# Altium integrated library FPGA Generic.IntLib: 1651 symbols (part 8 of 20)
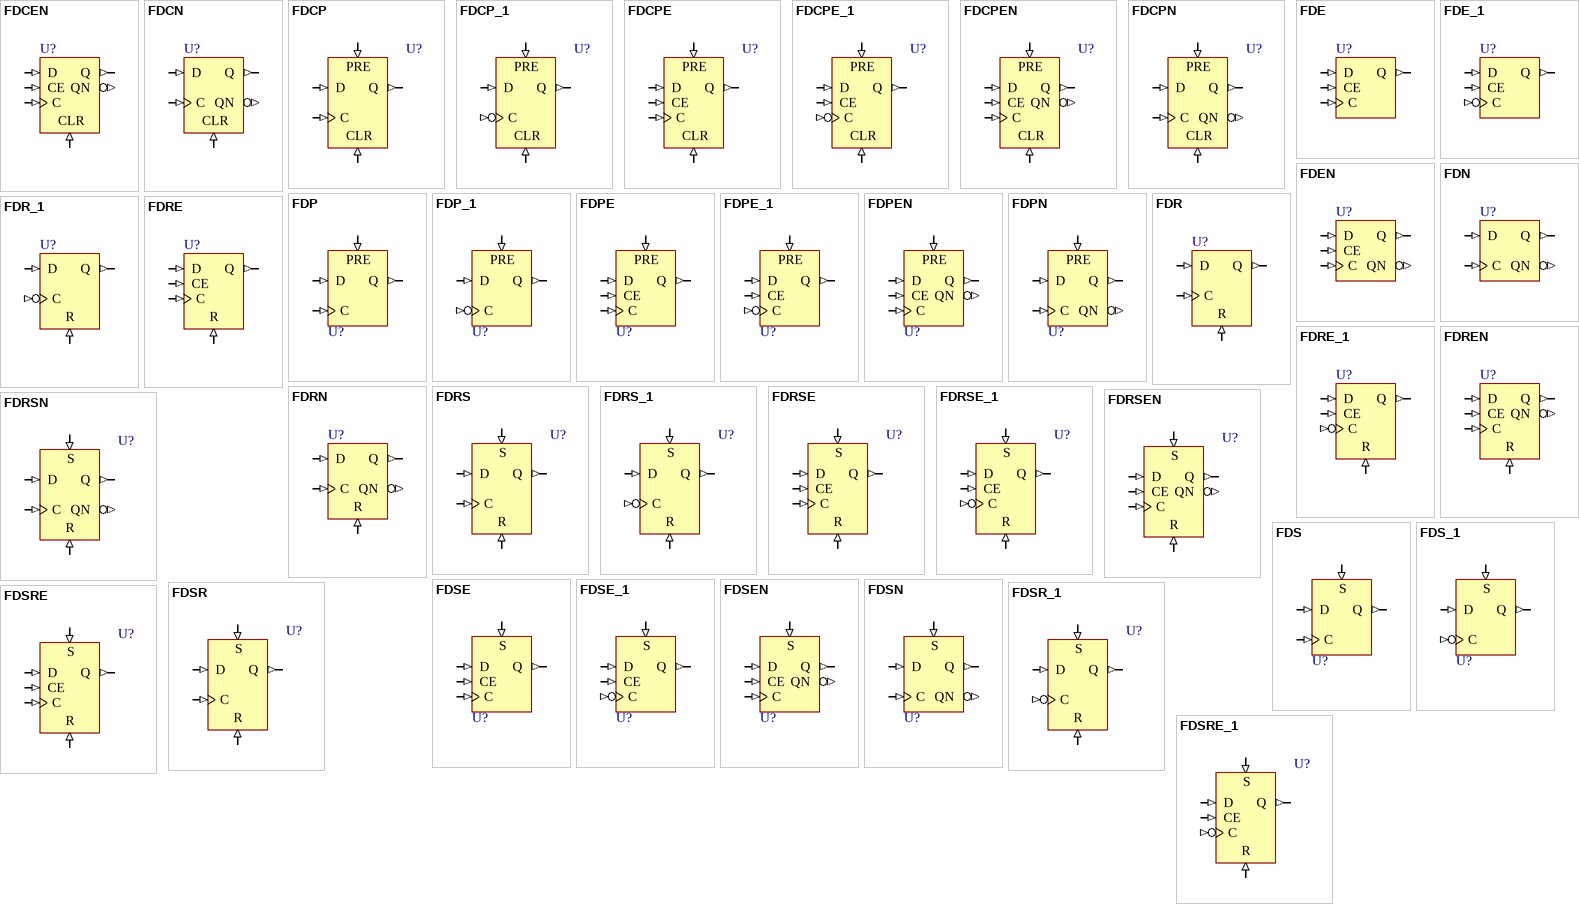
[diagram p50: symbols FDCEN to FDSRE_1]

## FDS_1
designator U?
D-Type Negative Edge Flip-Flop with Synchronous Set; XilinxEquivalent: FDS_1; SubClass: FD; ClockTrigger: Falling; ArchiveName: GENERIC; VHDLIB_SIM: GENERIC_LIB; Published: 29-Jan-2004; Publisher: Altium Limited; LastRevisionNo: 1.00.00; HelpURL: CR0118 FPGA Generic Library Guide.pdf#page=214; ComponentLink1URL: CR0133 FPGA Flip Flop Resource Usage.pdf#page=185; ComponentLink1Description: Core &Resource Usage; FunctionalClass: Flip-Flop; Set: Synchronous
pins: C (in), D (in), Q (out), S (in)

## FDSE
designator U?
D-Type Flip-Flop with Clock Enable and Synchronous Set; XilinxEquivalent: FDSE; SubClass: FD; ClockTrigger: Rising; Enable: High; ArchiveName: GENERIC; VHDLIB_SIM: GENERIC_LIB; Published: 29-Jan-2004; Publisher: Altium Limited; LastRevisionNo: 1.00.00; HelpURL: CR0118 FPGA Generic Library Guide.pdf#page=215; ComponentLink1URL: CR0133 FPGA Flip Flop Resource Usage.pdf#page=186; ComponentLink1Description: Core &Resource Usage; FunctionalClass: Flip-Flop; Set: Synchronous
pins: C (in), CE (in), D (in), Q (out), S (in)

## FDSE_1
designator U?
D-Type Negative Edge Flip-Flop with Clock Enable and Synchronous Set; XilinxEquivalent: FDSE_1; SubClass: FD; ClockTrigger: Falling; Enable: High; ArchiveName: GENERIC; VHDLIB_SIM: GENERIC_LIB; Published: 29-Jan-2004; Publisher: Altium Limited; LastRevisionNo: 1.00.00; HelpURL: CR0118 FPGA Generic Library Guide.pdf#page=217; ComponentLink1URL: CR0133 FPGA Flip Flop Resource Usage.pdf#page=187; ComponentLink1Description: Core &Resource Usage; FunctionalClass: Flip-Flop; Set: Synchronous
pins: C (in), CE (in), D (in), Q (out), S (in)

## FDSEN
designator U?
D-Type Flip-Flop with Clock Enable Synchronous Set and Inverted and Non-Inverted Outputs; SubClass: FD; ClockTrigger: Rising; Enable: High; ArchiveName: GENERIC; VHDLIB_SIM: GENERIC_LIB; Published: 29-Jan-2004; Publisher: Altium Limited; LastRevisionNo: 1.00.00; HelpURL: CR0118 FPGA Generic Library Guide.pdf#page=218; ComponentLink1URL: CR0133 FPGA Flip Flop Resource Usage.pdf#page=188; ComponentLink1Description: Core &Resource Usage; FunctionalClass: Flip-Flop; Set: Synchronous
pins: C (in), CE (in), D (in), Q (out), QN (out), S (in)

## FDSN
designator U?
D-Type Flip-Flop with Synchronous Set and Inverted and Non-Inverted Outputs; SubClass: FD; ClockTrigger: Rising; ArchiveName: GENERIC; VHDLIB_SIM: GENERIC_LIB; Published: 29-Jan-2004; Publisher: Altium Limited; LastRevisionNo: 1.00.00; HelpURL: CR0118 FPGA Generic Library Guide.pdf#page=219; ComponentLink1URL: CR0133 FPGA Flip Flop Resource Usage.pdf#page=189; ComponentLink1Description: Core &Resource Usage; FunctionalClass: Flip-Flop; Set: Synchronous
pins: C (in), D (in), Q (out), QN (out), S (in)

## FDSR
designator U?
D-Type Flip-Flop with Synchronous Set and Reset; XilinxEquivalent: FDSR; SubClass: FD; ClockTrigger: Rising; ArchiveName: GENERIC; VHDLIB_SIM: GENERIC_LIB; Published: 29-Jan-2004; Publisher: Altium Limited; LastRevisionNo: 1.00.00; HelpURL: CR0118 FPGA Generic Library Guide.pdf#page=220; ComponentLink1URL: CR0133 FPGA Flip Flop Resource Usage.pdf#page=190; ComponentLink1Description: Core &Resource Usage; FunctionalClass: Flip-Flop; Reset: Synchronous; Set: Synchronous
pins: C (in), D (in), Q (out), R (in), S (in)

## FDSR_1
designator U?
D-Type Negative Edge Flip-Flop with Synchronous Set and Reset; XilinxEquivalent: FDSR_1; SubClass: FD; ClockTrigger: Falling; ArchiveName: GENERIC; VHDLIB_SIM: GENERIC_LIB; Published: 29-Jan-2004; Publisher: Altium Limited; LastRevisionNo: 1.00.00; HelpURL: CR0118 FPGA Generic Library Guide.pdf#page=222; ComponentLink1URL: CR0133 FPGA Flip Flop Resource Usage.pdf#page=191; ComponentLink1Description: Core &Resource Usage; FunctionalClass: Flip-Flop; Reset: Synchronous; Set: Synchronous
pins: C (in), D (in), Q (out), R (in), S (in)

## FDSRE
designator U?
D-Type Flip-Flop with Synchronous Set and Reset and Clock Enable; XilinxEquivalent: FDSRE; SubClass: FD; ClockTrigger: Rising; Enable: High; ArchiveName: GENERIC; VHDLIB_SIM: GENERIC_LIB; Published: 29-Jan-2004; Publisher: Altium Limited; LastRevisionNo: 1.00.00; HelpURL: CR0118 FPGA Generic Library Guide.pdf#page=223; ComponentLink1URL: CR0133 FPGA Flip Flop Resource Usage.pdf#page=192; ComponentLink1Description: Core &Resource Usage; FunctionalClass: Flip-Flop; Reset: Synchronous; Set: Synchronous
pins: C (in), CE (in), D (in), Q (out), R (in), S (in)

## FDSRE_1
designator U?
D-Type Negative Edge Flip-Flop with Synchronous Set and Reset and Clock Enable; XilinxEquivalent: FDSRE_1; SubClass: FD; ClockTrigger: Falling; Enable: High; ArchiveName: GENERIC; VHDLIB_SIM: GENERIC_LIB; Published: 29-Jan-2004; Publisher: Altium Limited; LastRevisionNo: 1.00.00; HelpURL: CR0118 FPGA Generic Library Guide.pdf#page=225; ComponentLink1URL: CR0133 FPGA Flip Flop Resource Usage.pdf#page=193; ComponentLink1Description: Core &Resource Usage; FunctionalClass: Flip-Flop; Reset: Synchronous; Set: Synchronous
pins: C (in), CE (in), D (in), Q (out), R (in), S (in)

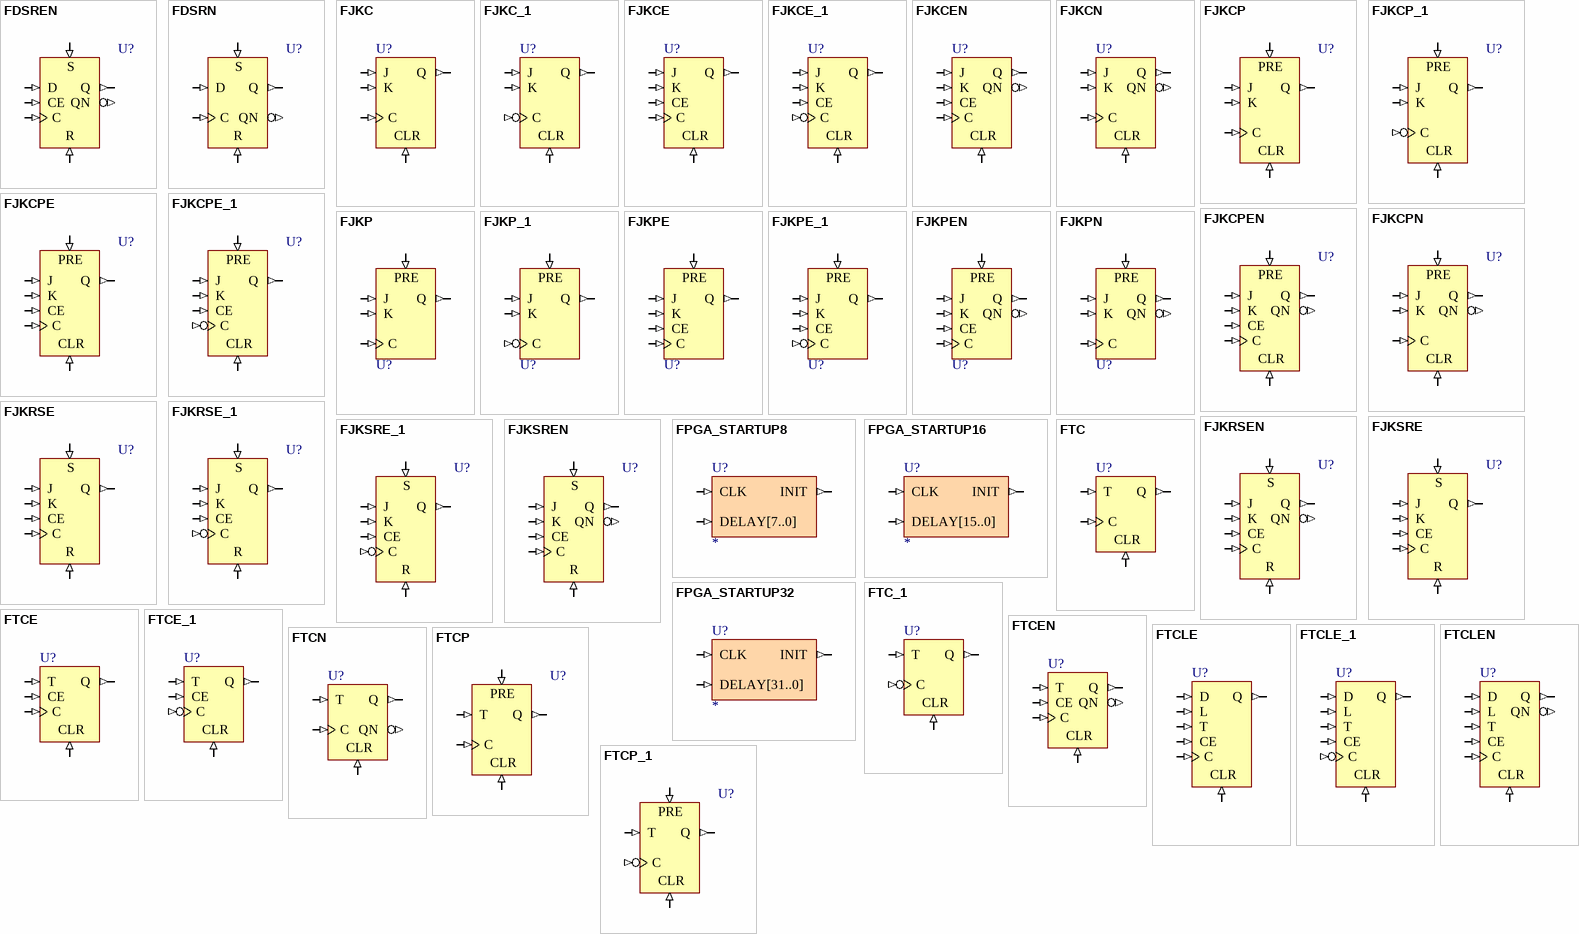
[diagram p15: symbols FDSREN to FTCP_1]

## FDSREN
designator U?
D-Type Flip-Flop with Synchronous Set, Reset, Clock Enable and Inverted and Non-Inverted Outputs; SubClass: FD; ClockTrigger: Rising; Enable: High; ArchiveName: GENERIC; VHDLIB_SIM: GENERIC_LIB; Published: 29-Jan-2004; Publisher: Altium Limited; LastRevisionNo: 1.00.00; HelpURL: CR0118 FPGA Generic Library Guide.pdf#page=226; ComponentLink1URL: CR0133 FPGA Flip Flop Resource Usage.pdf#page=194; ComponentLink1Description: Core &Resource Usage; FunctionalClass: Flip-Flop; Reset: Synchronous; Set: Synchronous
pins: C (in), CE (in), D (in), Q (out), QN (out), R (in), S (in)

## FDSRN
designator U?
D-Type Flip-Flop with Synchronous Set, Reset and Inverted and Non-Inverted Outputs; SubClass: FD; ClockTrigger: Rising; ArchiveName: GENERIC; VHDLIB_SIM: GENERIC_LIB; Published: 29-Jan-2004; Publisher: Altium Limited; LastRevisionNo: 1.00.00; HelpURL: CR0118 FPGA Generic Library Guide.pdf#page=227; ComponentLink1URL: CR0133 FPGA Flip Flop Resource Usage.pdf#page=195; ComponentLink1Description: Core &Resource Usage; FunctionalClass: Flip-Flop; Reset: Synchronous; Set: Synchronous
pins: C (in), D (in), Q (out), QN (out), R (in), S (in)

## FJKC
designator U?
J-K Flip-Flop with Asynchronous Clear; XilinxEquivalent: FJKC; SubClass: JK; ClockTrigger: Rising; ArchiveName: GENERIC; VHDLIB_SIM: GENERIC_LIB; Published: 29-Jan-2004; Publisher: Altium Limited; LastRevisionNo: 1.00.00; HelpURL: CR0118 FPGA Generic Library Guide.pdf#page=228; ComponentLink1URL: CR0133 FPGA Flip Flop Resource Usage.pdf#page=196; ComponentLink1Description: Core &Resource Usage; FunctionalClass: Flip-Flop; Reset: Asynchronous
pins: C (in), CLR (in), J (in), K (in), Q (out)

## FJKC_1
designator U?
J-K Negative Edge Flip-Flop with Asynchronous Clear; SubClass: JK; ClockTrigger: Falling; ArchiveName: GENERIC; VHDLIB_SIM: GENERIC_LIB; Published: 29-Jan-2004; Publisher: Altium Limited; LastRevisionNo: 1.00.00; HelpURL: CR0118 FPGA Generic Library Guide.pdf#page=229; ComponentLink1URL: CR0133 FPGA Flip Flop Resource Usage.pdf#page=197; ComponentLink1Description: Core &Resource Usage; FunctionalClass: Flip-Flop; Reset: Asynchronous
pins: C (in), CLR (in), J (in), K (in), Q (out)

## FJKCE
designator U?
J-K Flip-Flop with Clock Enable and Asynchronous Clear; XilinxEquivalent: FJKCE; SubClass: JK; ClockTrigger: Rising; Enable: High; ArchiveName: GENERIC; VHDLIB_SIM: GENERIC_LIB; Published: 29-Jan-2004; Publisher: Altium Limited; LastRevisionNo: 1.00.00; HelpURL: CR0118 FPGA Generic Library Guide.pdf#page=230; ComponentLink1URL: CR0133 FPGA Flip Flop Resource Usage.pdf#page=198; ComponentLink1Description: Core &Resource Usage; FunctionalClass: Flip-Flop; Reset: Asynchronous
pins: C (in), CE (in), CLR (in), J (in), K (in), Q (out)

## FJKCE_1
designator U?
J-K Negative Edge Flip-Flop with Clock Enable and Asynchronous Clear; SubClass: JK; ClockTrigger: Falling; Enable: High; ArchiveName: GENERIC; VHDLIB_SIM: GENERIC_LIB; Published: 29-Jan-2004; Publisher: Altium Limited; LastRevisionNo: 1.00.00; HelpURL: CR0118 FPGA Generic Library Guide.pdf#page=231; ComponentLink1URL: CR0133 FPGA Flip Flop Resource Usage.pdf#page=199; ComponentLink1Description: Core &Resource Usage; FunctionalClass: Flip-Flop; Reset: Asynchronous
pins: C (in), CE (in), CLR (in), J (in), K (in), Q (out)

## FJKCEN
designator U?
J-K Flip-Flop with Clock Enable, Asynchronous Clear and Inverted and Non-Inverted Outputs; SubClass: JK; ClockTrigger: Rising; Enable: High; ArchiveName: GENERIC; VHDLIB_SIM: GENERIC_LIB; Published: 29-Jan-2004; Publisher: Altium Limited; LastRevisionNo: 1.00.00; HelpURL: CR0118 FPGA Generic Library Guide.pdf#page=232; ComponentLink1URL: CR0133 FPGA Flip Flop Resource Usage.pdf#page=200; ComponentLink1Description: Core &Resource Usage; FunctionalClass: Flip-Flop; Reset: Asynchronous
pins: C (in), CE (in), CLR (in), J (in), K (in), Q (out), QN (out)

## FJKCN
designator U?
J-K Flip-Flop with Asynchronous Clear and Inverted and Non-Inverted Outputs; SubClass: JK; ClockTrigger: Rising; ArchiveName: GENERIC; VHDLIB_SIM: GENERIC_LIB; Published: 29-Jan-2004; Publisher: Altium Limited; LastRevisionNo: 1.00.00; HelpURL: CR0118 FPGA Generic Library Guide.pdf#page=233; ComponentLink1URL: CR0133 FPGA Flip Flop Resource Usage.pdf#page=201; ComponentLink1Description: Core &Resource Usage; FunctionalClass: Flip-Flop; Reset: Asynchronous
pins: C (in), CLR (in), J (in), K (in), Q (out), QN (out)

## FJKCP
designator U?
J-K Flip-Flop with Asynchronous Clear and Preset; XilinxEquivalent: FJKCP; SubClass: JK; ClockTrigger: Rising; ArchiveName: GENERIC; VHDLIB_SIM: GENERIC_LIB; Published: 29-Jan-2004; Publisher: Altium Limited; LastRevisionNo: 1.00.00; HelpURL: CR0118 FPGA Generic Library Guide.pdf#page=234; ComponentLink1URL: CR0133 FPGA Flip Flop Resource Usage.pdf#page=202; ComponentLink1Description: Core &Resource Usage; FunctionalClass: Flip-Flop; Reset: Asynchronous; Set: Asynchronous
pins: C (in), CLR (in), J (in), K (in), PRE (in), Q (out)

## FJKCP_1
designator U?
J-K Negative Edge Flip-Flop with Asynchronous Clear and Preset; SubClass: JK; ClockTrigger: Falling; ArchiveName: GENERIC; VHDLIB_SIM: GENERIC_LIB; Published: 29-Jan-2004; Publisher: Altium Limited; LastRevisionNo: 1.00.00; HelpURL: CR0118 FPGA Generic Library Guide.pdf#page=235; ComponentLink1URL: CR0133 FPGA Flip Flop Resource Usage.pdf#page=203; ComponentLink1Description: Core &Resource Usage; FunctionalClass: Flip-Flop; Reset: Asynchronous; Set: Asynchronous
pins: C (in), CLR (in), J (in), K (in), PRE (in), Q (out)

## FJKCPE
designator U?
J-K Flip-Flop with Asynchronous Clear and Preset and Clock Enable; XilinxEquivalent: FJKCPE; SubClass: JK; ClockTrigger: Rising; Enable: High; ArchiveName: GENERIC; VHDLIB_SIM: GENERIC_LIB; Published: 29-Jan-2004; Publisher: Altium Limited; LastRevisionNo: 1.00.00; HelpURL: CR0118 FPGA Generic Library Guide.pdf#page=236; ComponentLink1URL: CR0133 FPGA Flip Flop Resource Usage.pdf#page=204; ComponentLink1Description: Core &Resource Usage; FunctionalClass: Flip-Flop; Reset: Asynchronous; Set: Asynchronous
pins: C (in), CE (in), CLR (in), J (in), K (in), PRE (in), Q (out)

## FJKCPE_1
designator U?
J-K Negative Edge Flip-Flop with Asynchronous Clear and Preset and Clock Enable; SubClass: JK; ClockTrigger: Falling; Enable: High; ArchiveName: GENERIC; VHDLIB_SIM: GENERIC_LIB; Published: 29-Jan-2004; Publisher: Altium Limited; LastRevisionNo: 1.00.00; HelpURL: CR0118 FPGA Generic Library Guide.pdf#page=237; ComponentLink1URL: CR0133 FPGA Flip Flop Resource Usage.pdf#page=205; ComponentLink1Description: Core &Resource Usage; FunctionalClass: Flip-Flop; Reset: Asynchronous; Set: Asynchronous
pins: C (in), CE (in), CLR (in), J (in), K (in), PRE (in), Q (out)

## FJKCPEN
designator U?
J-K Flip-Flop with Asynchronous Clear, Preset, Clock Enable and Inverted and Non-Inverted Outputs; SubClass: JK; ClockTrigger: Rising; Enable: High; ArchiveName: GENERIC; VHDLIB_SIM: GENERIC_LIB; Published: 29-Jan-2004; Publisher: Altium Limited; LastRevisionNo: 1.00.00; HelpURL: CR0118 FPGA Generic Library Guide.pdf#page=238; ComponentLink1URL: CR0133 FPGA Flip Flop Resource Usage.pdf#page=206; ComponentLink1Description: Core &Resource Usage; FunctionalClass: Flip-Flop; Reset: Asynchronous; Set: Asynchronous
pins: C (in), CE (in), CLR (in), J (in), K (in), PRE (in), Q (out), QN (out)

## FJKCPN
designator U?
J-K Flip-Flop with Asynchronous Clear, Preset and Inverted and Non-Inverted Outputs; SubClass: JK; ClockTrigger: Rising; ArchiveName: GENERIC; VHDLIB_SIM: GENERIC_LIB; Published: 29-Jan-2004; Publisher: Altium Limited; LastRevisionNo: 1.00.00; HelpURL: CR0118 FPGA Generic Library Guide.pdf#page=239; ComponentLink1URL: CR0133 FPGA Flip Flop Resource Usage.pdf#page=207; ComponentLink1Description: Core &Resource Usage; FunctionalClass: Flip-Flop; Reset: Asynchronous; Set: Asynchronous
pins: C (in), CLR (in), J (in), K (in), PRE (in), Q (out), QN (out)

## FJKP
designator U?
J-K Flip-Flop with Asynchronous Preset; XilinxEquivalent: FJKP; SubClass: JK; ClockTrigger: Rising; ArchiveName: GENERIC; VHDLIB_SIM: GENERIC_LIB; Published: 29-Jan-2004; Publisher: Altium Limited; LastRevisionNo: 1.00.00; HelpURL: CR0118 FPGA Generic Library Guide.pdf#page=240; ComponentLink1URL: CR0133 FPGA Flip Flop Resource Usage.pdf#page=208; ComponentLink1Description: Core &Resource Usage; FunctionalClass: Flip-Flop; Set: Asynchronous
pins: C (in), J (in), K (in), PRE (in), Q (out)

## FJKP_1
designator U?
J-K Negative Edge Flip-Flop with Asynchronous Preset; SubClass: JK; ClockTrigger: Falling; ArchiveName: GENERIC; VHDLIB_SIM: GENERIC_LIB; Published: 29-Jan-2004; Publisher: Altium Limited; LastRevisionNo: 1.00.00; HelpURL: CR0118 FPGA Generic Library Guide.pdf#page=241; ComponentLink1URL: CR0133 FPGA Flip Flop Resource Usage.pdf#page=209; ComponentLink1Description: Core &Resource Usage; FunctionalClass: Flip-Flop; Set: Asynchronous
pins: C (in), J (in), K (in), PRE (in), Q (out)

## FJKPE
designator U?
J-K Flip-Flop with Clock Enable and Asynchronous Preset; XilinxEquivalent: FJKPE; SubClass: JK; ClockTrigger: Rising; Enable: High; ArchiveName: GENERIC; VHDLIB_SIM: GENERIC_LIB; Published: 29-Jan-2004; Publisher: Altium Limited; LastRevisionNo: 1.00.00; HelpURL: CR0118 FPGA Generic Library Guide.pdf#page=242; ComponentLink1URL: CR0133 FPGA Flip Flop Resource Usage.pdf#page=210; ComponentLink1Description: Core &Resource Usage; FunctionalClass: Flip-Flop; Set: Asynchronous
pins: C (in), CE (in), J (in), K (in), PRE (in), Q (out)

## FJKPE_1
designator U?
J-K Negative Edge Flip-Flop with Clock Enable and Asynchronous Preset; SubClass: JK; ClockTrigger: Falling; Enable: High; ArchiveName: GENERIC; VHDLIB_SIM: GENERIC_LIB; Published: 29-Jan-2004; Publisher: Altium Limited; LastRevisionNo: 1.00.00; HelpURL: CR0118 FPGA Generic Library Guide.pdf#page=243; ComponentLink1URL: CR0133 FPGA Flip Flop Resource Usage.pdf#page=211; ComponentLink1Description: Core &Resource Usage; FunctionalClass: Flip-Flop; Set: Asynchronous
pins: C (in), CE (in), J (in), K (in), PRE (in), Q (out)

## FJKPEN
designator U?
J-K Flip-Flop with Clock Enable, Asynchronous Preset and Inverted and Non-Inverted Outputs; SubClass: JK; ClockTrigger: Rising; Enable: High; ArchiveName: GENERIC; VHDLIB_SIM: GENERIC_LIB; Published: 29-Jan-2004; Publisher: Altium Limited; LastRevisionNo: 1.00.00; HelpURL: CR0118 FPGA Generic Library Guide.pdf#page=244; ComponentLink1URL: CR0133 FPGA Flip Flop Resource Usage.pdf#page=212; ComponentLink1Description: Core &Resource Usage; FunctionalClass: Flip-Flop; Set: Asynchronous
pins: C (in), CE (in), J (in), K (in), PRE (in), Q (out), QN (out)

## FJKPN
designator U?
J-K Flip-Flop with Asynchronous Preset and Inverted and Non-Inverted Outputs; SubClass: JK; ClockTrigger: Rising; ArchiveName: GENERIC; VHDLIB_SIM: GENERIC_LIB; Published: 29-Jan-2004; Publisher: Altium Limited; LastRevisionNo: 1.00.00; HelpURL: CR0118 FPGA Generic Library Guide.pdf#page=245; ComponentLink1URL: CR0133 FPGA Flip Flop Resource Usage.pdf#page=213; ComponentLink1Description: Core &Resource Usage; FunctionalClass: Flip-Flop; Set: Asynchronous
pins: C (in), J (in), K (in), PRE (in), Q (out), QN (out)

## FJKRSE
designator U?
J-K Flip-Flop with Clock Enable and Synchronous Reset and Set; XilinxEquivalent: FJKRSE; SubClass: JK; ClockTrigger: Rising; Enable: High; ArchiveName: GENERIC; VHDLIB_SIM: GENERIC_LIB; Published: 29-Jan-2004; Publisher: Altium Limited; LastRevisionNo: 1.00.00; HelpURL: CR0118 FPGA Generic Library Guide.pdf#page=246; ComponentLink1URL: CR0133 FPGA Flip Flop Resource Usage.pdf#page=214; ComponentLink1Description: Core &Resource Usage; FunctionalClass: Flip-Flop; Reset: Synchronous; Set: Synchronous
pins: C (in), CE (in), J (in), K (in), Q (out), R (in), S (in)

## FJKRSE_1
designator U?
J-K Negative Edge Flip-Flop with Clock Enable and Synchronous Reset and Set; SubClass: JK; ClockTrigger: Falling; Enable: High; ArchiveName: GENERIC; VHDLIB_SIM: GENERIC_LIB; Published: 29-Jan-2004; Publisher: Altium Limited; LastRevisionNo: 1.00.00; HelpURL: CR0118 FPGA Generic Library Guide.pdf#page=247; ComponentLink1URL: CR0133 FPGA Flip Flop Resource Usage.pdf#page=215; ComponentLink1Description: Core &Resource Usage; FunctionalClass: Flip-Flop; Reset: Synchronous; Set: Synchronous
pins: C (in), CE (in), J (in), K (in), Q (out), R (in), S (in)

## FJKRSEN
designator U?
J-K Flip-Flop with Clock Enable, Synchronous Reset and Set and Inverted and Non-Inverted Outputs; SubClass: JK; ClockTrigger: Rising; Enable: High; ArchiveName: GENERIC; VHDLIB_SIM: GENERIC_LIB; Published: 29-Jan-2004; Publisher: Altium Limited; LastRevisionNo: 1.00.00; HelpURL: CR0118 FPGA Generic Library Guide.pdf#page=248; ComponentLink1URL: CR0133 FPGA Flip Flop Resource Usage.pdf#page=216; ComponentLink1Description: Core &Resource Usage; FunctionalClass: Flip-Flop; Reset: Synchronous; Set: Synchronous
pins: C (in), CE (in), J (in), K (in), Q (out), QN (out), R (in), S (in)

## FJKSRE
designator U?
J-K Flip-Flop with Clock Enable and Synchronous Set and Reset; XilinxEquivalent: FJKSRE; SubClass: JK; ClockTrigger: Rising; Enable: High; ArchiveName: GENERIC; VHDLIB_SIM: GENERIC_LIB; Published: 29-Jan-2004; Publisher: Altium Limited; LastRevisionNo: 1.00.00; HelpURL: CR0118 FPGA Generic Library Guide.pdf#page=249; ComponentLink1URL: CR0133 FPGA Flip Flop Resource Usage.pdf#page=217; ComponentLink1Description: Core &Resource Usage; FunctionalClass: Flip-Flop; Reset: Synchronous; Set: Synchronous
pins: C (in), CE (in), J (in), K (in), Q (out), R (in), S (in)

## FJKSRE_1
designator U?
J-K Negative Edge Flip-Flop with Clock Enable and Synchronous Set and Reset; SubClass: JK; ClockTrigger: Falling; Enable: High; ArchiveName: GENERIC; VHDLIB_SIM: GENERIC_LIB; Published: 29-Jan-2004; Publisher: Altium Limited; LastRevisionNo: 1.00.00; HelpURL: CR0118 FPGA Generic Library Guide.pdf#page=250; ComponentLink1URL: CR0133 FPGA Flip Flop Resource Usage.pdf#page=218; ComponentLink1Description: Core &Resource Usage; FunctionalClass: Flip-Flop; Reset: Synchronous; Set: Synchronous
pins: C (in), CE (in), J (in), K (in), Q (out), R (in), S (in)

## FJKSREN
designator U?
J-K Flip-Flop with Clock Enable, Synchronous Set and Reset and Inverted and Non-Inverted Outputs; SubClass: JK; ClockTrigger: Rising; Enable: High; ArchiveName: GENERIC; VHDLIB_SIM: GENERIC_LIB; Published: 29-Jan-2004; Publisher: Altium Limited; LastRevisionNo: 1.00.00; HelpURL: CR0118 FPGA Generic Library Guide.pdf#page=251; ComponentLink1URL: CR0133 FPGA Flip Flop Resource Usage.pdf#page=219; ComponentLink1Description: Core &Resource Usage; FunctionalClass: Flip-Flop; Reset: Synchronous; Set: Synchronous
pins: C (in), CE (in), J (in), K (in), Q (out), QN (out), R (in), S (in)

## FPGA_STARTUP8
designator U?
FPGA Startup With 8 Bit Delay; Published: 9-Dec-2004; Publisher: Altium Limited; HelpURL: CR0119 FPGA_STARTUPx Powerup Delay Unit.pdf; LastRevisionNo: 1.00.00; ComponentLink1Description: Core &Resource Usage; ComponentLink1URL: CR0139 FPGA Peripheral Resource Usage.pdf#page=11
pins: CLK (in), DELAY[7..0] (in), INIT (out)

## FPGA_STARTUP16
designator U?
FPGA Startup With 16 Bit Delay; Published: 9-Dec-2004; Publisher: Altium Limited; HelpURL: CR0119 FPGA_STARTUPx Powerup Delay Unit.pdf; LastRevisionNo: 1.00.00; ComponentLink1Description: Core &Resource Usage; ComponentLink1URL: CR0139 FPGA Peripheral Resource Usage.pdf#page=13
pins: CLK (in), DELAY[15..0] (in), INIT (out)

## FPGA_STARTUP32
designator U?
FPGA Startup With 32 Bit Delay; Published: 9-Dec-2004; Publisher: Altium Limited; ComponentLink1Description: Core &Resource Usage; ComponentLink1URL: CR0139 FPGA Peripheral Resource Usage.pdf#page=15; HelpURL: CR0119 FPGA_STARTUPx Powerup Delay Unit.pdf; LastRevisionNo: 1.00.00
pins: CLK (in), DELAY[31..0] (in), INIT (out)

## FTC
designator U?
Toggle Flip-Flop with Toggle Enable and Asynchronous Clear; XilinxEquivalent: FTC; SubClass: T; ClockTrigger: Rising; Enable: High; ArchiveName: GENERIC; VHDLIB_SIM: GENERIC_LIB; Published: 29-Jan-2004; Publisher: Altium Limited; LastRevisionNo: 1.00.00; HelpURL: CR0118 FPGA Generic Library Guide.pdf#page=252; ComponentLink1URL: CR0133 FPGA Flip Flop Resource Usage.pdf#page=220; ComponentLink1Description: Core &Resource Usage; FunctionalClass: Flip-Flop; Reset: Asynchronous
pins: C (in), CLR (in), Q (out), T (in)

## FTC_1
designator U?
Negative Edge Toggle Flip-Flop with Toggle Enable and Asynchronous Clear; SubClass: T; ClockTrigger: Falling; Enable: High; ArchiveName: GENERIC; VHDLIB_SIM: GENERIC_LIB; Published: 29-Jan-2004; Publisher: Altium Limited; LastRevisionNo: 1.00.00; HelpURL: CR0118 FPGA Generic Library Guide.pdf#page=253; ComponentLink1URL: CR0133 FPGA Flip Flop Resource Usage.pdf#page=221; ComponentLink1Description: Core &Resource Usage; FunctionalClass: Flip-Flop; Reset: Asynchronous
pins: C (in), CLR (in), Q (out), T (in)

## FTCE
designator U?
Toggle Flip-Flop with Toggle and Clock Enable and Asynchronous Clear; XilinxEquivalent: FTCE; SubClass: T; ClockTrigger: Rising; Enable: High; ArchiveName: GENERIC; VHDLIB_SIM: GENERIC_LIB; Published: 29-Jan-2004; Publisher: Altium Limited; LastRevisionNo: 1.00.00; HelpURL: CR0118 FPGA Generic Library Guide.pdf#page=254; ComponentLink1URL: CR0133 FPGA Flip Flop Resource Usage.pdf#page=222; ComponentLink1Description: Core &Resource Usage; FunctionalClass: Flip-Flop; Reset: Asynchronous
pins: C (in), CE (in), CLR (in), Q (out), T (in)

## FTCE_1
designator U?
Negative Edge Toggle Flip-Flop with Toggle and Clock Enable and Asynchronous Clear; SubClass: T; ClockTrigger: Falling; Enable: High; ArchiveName: GENERIC; VHDLIB_SIM: GENERIC_LIB; Published: 29-Jan-2004; Publisher: Altium Limited; LastRevisionNo: 1.00.00; HelpURL: CR0118 FPGA Generic Library Guide.pdf#page=255; ComponentLink1URL: CR0133 FPGA Flip Flop Resource Usage.pdf#page=223; ComponentLink1Description: Core &Resource Usage; FunctionalClass: Flip-Flop; Reset: Asynchronous
pins: C (in), CE (in), CLR (in), Q (out), T (in)

## FTCEN
designator U?
Toggle Flip-Flop with Toggle, Clock Enable, Asynchronous Clear and Inverted and Non-Inverted Outputs; SubClass: T; ClockTrigger: Rising; Enable: High; ArchiveName: GENERIC; VHDLIB_SIM: GENERIC_LIB; Published: 29-Jan-2004; Publisher: Altium Limited; LastRevisionNo: 1.00.00; HelpURL: CR0118 FPGA Generic Library Guide.pdf#page=256; ComponentLink1URL: CR0133 FPGA Flip Flop Resource Usage.pdf#page=224; ComponentLink1Description: Core &Resource Usage; FunctionalClass: Flip-Flop; Reset: Asynchronous
pins: C (in), CE (in), CLR (in), Q (out), QN (out), T (in)

## FTCLE
designator U?
Toggle/Loadable Flip-Flop with Toggle and Clock Enable and Asynchronous Clear; XilinxEquivalent: FTCLE; SubClass: T; ClockTrigger: Rising; Enable: High; Loadable: True; ArchiveName: GENERIC; VHDLIB_SIM: GENERIC_LIB; Published: 29-Jan-2004; Publisher: Altium Limited; LastRevisionNo: 1.00.00; HelpURL: CR0118 FPGA Generic Library Guide.pdf#page=257; ComponentLink1URL: CR0133 FPGA Flip Flop Resource Usage.pdf#page=225; ComponentLink1Description: Core &Resource Usage; FunctionalClass: Flip-Flop; Reset: Asynchronous
pins: C (in), CE (in), CLR (in), D (in), L (in), Q (out), T (in)

## FTCLE_1
designator U?
Toggle/Loadable Negative Edge Flip-Flop with Toggle and Clock Enable and Asynchronous Clear; SubClass: T; ClockTrigger: Falling; Enable: High; Loadable: True; ArchiveName: GENERIC; VHDLIB_SIM: GENERIC_LIB; Published: 29-Jan-2004; Publisher: Altium Limited; LastRevisionNo: 1.00.00; HelpURL: CR0118 FPGA Generic Library Guide.pdf#page=258; ComponentLink1URL: CR0133 FPGA Flip Flop Resource Usage.pdf#page=226; ComponentLink1Description: Core &Resource Usage; FunctionalClass: Flip-Flop; Reset: Asynchronous
pins: C (in), CE (in), CLR (in), D (in), L (in), Q (out), T (in)

## FTCLEN
designator U?
Toggle/Loadable Flip-Flop with Toggle, Clock Enable, Asynchronous Clear and Inverted and Non-Inverted Outputs; SubClass: T; ClockTrigger: Rising; Enable: High; Loadable: True; ArchiveName: GENERIC; VHDLIB_SIM: GENERIC_LIB; Published: 29-Jan-2004; Publisher: Altium Limited; LastRevisionNo: 1.00.00; HelpURL: CR0118 FPGA Generic Library Guide.pdf#page=259; ComponentLink1URL: CR0133 FPGA Flip Flop Resource Usage.pdf#page=227; ComponentLink1Description: Core &Resource Usage; FunctionalClass: Flip-Flop; Reset: Asynchronous
pins: C (in), CE (in), CLR (in), D (in), L (in), Q (out), QN (out), T (in)

## FTCN
designator U?
Toggle Flip-Flop with Toggle Enable, Asynchronous Clear and Inverted and Non-Inverted Outputs; SubClass: T; ClockTrigger: Rising; Enable: High; ArchiveName: GENERIC; VHDLIB_SIM: GENERIC_LIB; Published: 29-Jan-2004; Publisher: Altium Limited; LastRevisionNo: 1.00.00; HelpURL: CR0118 FPGA Generic Library Guide.pdf#page=260; ComponentLink1URL: CR0133 FPGA Flip Flop Resource Usage.pdf#page=228; ComponentLink1Description: Core &Resource Usage; FunctionalClass: Flip-Flop; Reset: Asynchronous
pins: C (in), CLR (in), Q (out), QN (out), T (in)

## FTCP
designator U?
Toggle Flip-Flop with Toggle Enable and Asynchronous Clear and Preset; XilinxEquivalent: FTCP; SubClass: T; ClockTrigger: Rising; Enable: High; ArchiveName: GENERIC; VHDLIB_SIM: GENERIC_LIB; Published: 29-Jan-2004; Publisher: Altium Limited; LastRevisionNo: 1.00.00; HelpURL: CR0118 FPGA Generic Library Guide.pdf#page=261; ComponentLink1URL: CR0133 FPGA Flip Flop Resource Usage.pdf#page=229; ComponentLink1Description: Core &Resource Usage; FunctionalClass: Flip-Flop; Reset: Asynchronous; Set: Asynchronous
pins: C (in), CLR (in), PRE (in), Q (out), T (in)

## FTCP_1
designator U?
Negative Edge Toggle Flip-Flop with Toggle Enable and Asynchronous Clear and Preset; SubClass: T; ClockTrigger: Falling; Enable: High; ArchiveName: GENERIC; VHDLIB_SIM: GENERIC_LIB; Published: 29-Jan-2004; Publisher: Altium Limited; LastRevisionNo: 1.00.00; HelpURL: CR0118 FPGA Generic Library Guide.pdf#page=262; ComponentLink1URL: CR0133 FPGA Flip Flop Resource Usage.pdf#page=230; ComponentLink1Description: Core &Resource Usage; FunctionalClass: Flip-Flop; Reset: Asynchronous; Set: Asynchronous
pins: C (in), CLR (in), PRE (in), Q (out), T (in)

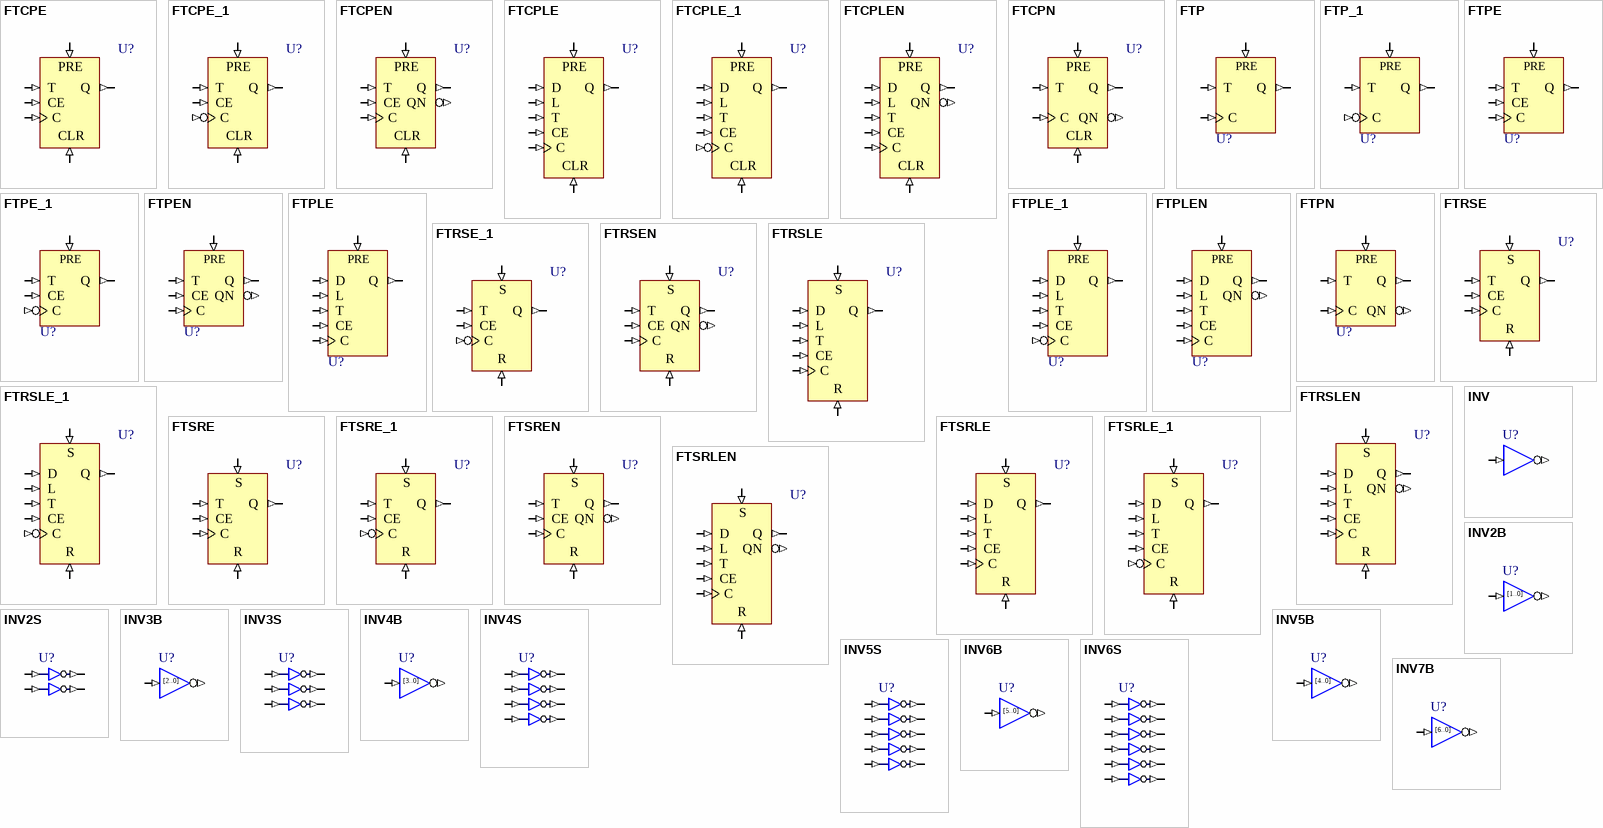
[diagram p16: symbols FTCPE to INV7B]

## FTCPE
designator U?
Toggle Flip-Flop with Toggle and Clock Enable and Asynchronous Clear and Preset; XilinxEquivalent: FTCPE; SubClass: T; ClockTrigger: Rising; Enable: High; ArchiveName: GENERIC; VHDLIB_SIM: GENERIC_LIB; Published: 29-Jan-2004; Publisher: Altium Limited; LastRevisionNo: 1.00.00; HelpURL: CR0118 FPGA Generic Library Guide.pdf#page=263; ComponentLink1URL: CR0133 FPGA Flip Flop Resource Usage.pdf#page=231; ComponentLink1Description: Core &Resource Usage; FunctionalClass: Flip-Flop; Reset: Asynchronous; Set: Asynchronous
pins: C (in), CE (in), CLR (in), PRE (in), Q (out), T (in)

## FTCPE_1
designator U?
Negative Edge Toggle Flip-Flop with Toggle and Clock Enable and Asynchronous Clear and Preset; SubClass: T; ClockTrigger: Falling; Enable: High; ArchiveName: GENERIC; VHDLIB_SIM: GENERIC_LIB; Published: 29-Jan-2004; Publisher: Altium Limited; LastRevisionNo: 1.00.00; HelpURL: CR0118 FPGA Generic Library Guide.pdf#page=264; ComponentLink1URL: CR0133 FPGA Flip Flop Resource Usage.pdf#page=232; ComponentLink1Description: Core &Resource Usage; FunctionalClass: Flip-Flop; Reset: Asynchronous; Set: Asynchronous
pins: C (in), CE (in), CLR (in), PRE (in), Q (out), T (in)

## FTCPEN
designator U?
Toggle Flip-Flop with Toggle, Clock Enable, Asynchronous Clear and Preset and Inverted and Non-Inverted Outputs; SubClass: T; ClockTrigger: Rising; Enable: High; ArchiveName: GENERIC; VHDLIB_SIM: GENERIC_LIB; Published: 29-Jan-2004; Publisher: Altium Limited; LastRevisionNo: 1.00.00; HelpURL: CR0118 FPGA Generic Library Guide.pdf#page=265; ComponentLink1URL: CR0133 FPGA Flip Flop Resource Usage.pdf#page=233; ComponentLink1Description: Core &Resource Usage; FunctionalClass: Flip-Flop; Reset: Asynchronous; Set: Asynchronous
pins: C (in), CE (in), CLR (in), PRE (in), Q (out), QN (out), T (in)

## FTCPLE
designator U?
Loadable Toggle Flip-Flop with Toggle and Clock Enable and Asynchronous Clear and Preset; XilinxEquivalent: FTCPLE; SubClass: T; ClockTrigger: Rising; Enable: High; Loadable: True; ArchiveName: GENERIC; VHDLIB_SIM: GENERIC_LIB; Published: 29-Jan-2004; Publisher: Altium Limited; LastRevisionNo: 1.00.00; HelpURL: CR0118 FPGA Generic Library Guide.pdf#page=266; ComponentLink1URL: CR0133 FPGA Flip Flop Resource Usage.pdf#page=234; ComponentLink1Description: Core &Resource Usage; FunctionalClass: Flip-Flop; Reset: Asynchronous; Set: Asynchronous
pins: C (in), CE (in), CLR (in), D (in), L (in), PRE (in), Q (out), T (in)

## FTCPLE_1
designator U?
Loadable Negative Edge Toggle Flip-Flop with Toggle and Clock Enable and Asynchronous Clear and Preset; SubClass: T; ClockTrigger: Falling; Enable: High; Loadable: True; ArchiveName: GENERIC; VHDLIB_SIM: GENERIC_LIB; Published: 29-Jan-2004; Publisher: Altium Limited; LastRevisionNo: 1.00.00; HelpURL: CR0118 FPGA Generic Library Guide.pdf#page=267; ComponentLink1URL: CR0133 FPGA Flip Flop Resource Usage.pdf#page=235; ComponentLink1Description: Core &Resource Usage; FunctionalClass: Flip-Flop; Reset: Asynchronous; Set: Asynchronous
pins: C (in), CE (in), CLR (in), D (in), L (in), PRE (in), Q (out), T (in)

## FTCPLEN
designator U?
Loadable Toggle Flip-Flop with Toggle, Clock Enable, Asynchronous Clear and Preset and Inverted and Non-Inverted Outputs; SubClass: T; ClockTrigger: Rising; Enable: High; Loadable: True; ArchiveName: GENERIC; VHDLIB_SIM: GENERIC_LIB; Published: 29-Jan-2004; Publisher: Altium Limited; LastRevisionNo: 1.00.00; HelpURL: CR0118 FPGA Generic Library Guide.pdf#page=268; ComponentLink1URL: CR0133 FPGA Flip Flop Resource Usage.pdf#page=236; ComponentLink1Description: Core &Resource Usage; FunctionalClass: Flip-Flop; Reset: Asynchronous; Set: Asynchronous
pins: C (in), CE (in), CLR (in), D (in), L (in), PRE (in), Q (out), QN (out), T (in)

## FTCPN
designator U?
Toggle Flip-Flop with Toggle Enable, Asynchronous Clear, Preset and Inverted and Non-Inverted Outputs; SubClass: T; ClockTrigger: Rising; Enable: High; ArchiveName: GENERIC; VHDLIB_SIM: GENERIC_LIB; Published: 29-Jan-2004; Publisher: Altium Limited; LastRevisionNo: 1.00.00; HelpURL: CR0118 FPGA Generic Library Guide.pdf#page=269; ComponentLink1URL: CR0133 FPGA Flip Flop Resource Usage.pdf#page=237; ComponentLink1Description: Core &Resource Usage; FunctionalClass: Flip-Flop; Reset: Asynchronous; Set: Asynchronous
pins: C (in), CLR (in), PRE (in), Q (out), QN (out), T (in)

## FTP
designator U?
Toggle Flip-Flop with Toggle Enable and Asynchronous Preset; XilinxEquivalent: FTP; SubClass: T; ClockTrigger: Rising; Enable: High; ArchiveName: GENERIC; VHDLIB_SIM: GENERIC_LIB; Published: 29-Jan-2004; Publisher: Altium Limited; LastRevisionNo: 1.00.00; HelpURL: CR0118 FPGA Generic Library Guide.pdf#page=270; ComponentLink1URL: CR0133 FPGA Flip Flop Resource Usage.pdf#page=238; ComponentLink1Description: Core &Resource Usage; FunctionalClass: Flip-Flop; Set: Asynchronous
pins: C (in), PRE (in), Q (out), T (in)

## FTP_1
designator U?
Negative Edge Toggle Flip-Flop with Toggle Enable and Asynchronous Preset; SubClass: T; ClockTrigger: Falling; Enable: High; ArchiveName: GENERIC; VHDLIB_SIM: GENERIC_LIB; Published: 29-Jan-2004; Publisher: Altium Limited; LastRevisionNo: 1.00.00; HelpURL: CR0118 FPGA Generic Library Guide.pdf#page=271; ComponentLink1URL: CR0133 FPGA Flip Flop Resource Usage.pdf#page=239; ComponentLink1Description: Core &Resource Usage; FunctionalClass: Flip-Flop; Set: Asynchronous
pins: C (in), PRE (in), Q (out), T (in)

## FTPE
designator U?
Toggle Flip-Flop with Toggle and Clock Enable and Asynchronous Preset; XilinxEquivalent: FTPE; SubClass: T; ClockTrigger: Rising; Enable: High; ArchiveName: GENERIC; VHDLIB_SIM: GENERIC_LIB; Published: 29-Jan-2004; Publisher: Altium Limited; LastRevisionNo: 1.00.00; HelpURL: CR0118 FPGA Generic Library Guide.pdf#page=272; ComponentLink1URL: CR0133 FPGA Flip Flop Resource Usage.pdf#page=240; ComponentLink1Description: Core &Resource Usage; FunctionalClass: Flip-Flop; Set: Asynchronous
pins: C (in), CE (in), PRE (in), Q (out), T (in)

## FTPE_1
designator U?
Negative Edge Toggle Flip-Flop with Toggle and Clock Enable and Asynchronous Preset; SubClass: T; ClockTrigger: Falling; Enable: High; ArchiveName: GENERIC; VHDLIB_SIM: GENERIC_LIB; Published: 29-Jan-2004; Publisher: Altium Limited; LastRevisionNo: 1.00.00; HelpURL: CR0118 FPGA Generic Library Guide.pdf#page=273; ComponentLink1URL: CR0133 FPGA Flip Flop Resource Usage.pdf#page=241; ComponentLink1Description: Core &Resource Usage; FunctionalClass: Flip-Flop; Set: Asynchronous
pins: C (in), CE (in), PRE (in), Q (out), T (in)

## FTPEN
designator U?
Toggle Flip-Flop with Toggle, Clock Enable, Asynchronous Preset and Inverted and Non-Inverted Outputs; SubClass: T; ClockTrigger: Rising; Enable: High; ArchiveName: GENERIC; VHDLIB_SIM: GENERIC_LIB; Published: 29-Jan-2004; Publisher: Altium Limited; LastRevisionNo: 1.00.00; HelpURL: CR0118 FPGA Generic Library Guide.pdf#page=274; ComponentLink1URL: CR0133 FPGA Flip Flop Resource Usage.pdf#page=242; ComponentLink1Description: Core &Resource Usage; FunctionalClass: Flip-Flop; Set: Asynchronous
pins: C (in), CE (in), PRE (in), Q (out), QN (out), T (in)

## FTPLE
designator U?
Toggle/Loadable Flip-Flop with Toggle and Clock Enable and Asynchronous Preset; XilinxEquivalent: FTPLE; SubClass: T; ClockTrigger: Rising; Enable: High; Loadable: True; ArchiveName: GENERIC; VHDLIB_SIM: GENERIC_LIB; Published: 29-Jan-2004; Publisher: Altium Limited; LastRevisionNo: 1.00.00; HelpURL: CR0118 FPGA Generic Library Guide.pdf#page=275; ComponentLink1URL: CR0133 FPGA Flip Flop Resource Usage.pdf#page=243; ComponentLink1Description: Core &Resource Usage; FunctionalClass: Flip-Flop; Set: Asynchronous
pins: C (in), CE (in), D (in), L (in), PRE (in), Q (out), T (in)

## FTPLE_1
designator U?
Toggle/Loadable Negative Edge Flip-Flop with Toggle and Clock Enable and Asynchronous Preset; SubClass: T; ClockTrigger: Falling; Enable: High; Loadable: True; ArchiveName: GENERIC; VHDLIB_SIM: GENERIC_LIB; Published: 29-Jan-2004; Publisher: Altium Limited; LastRevisionNo: 1.00.00; HelpURL: CR0118 FPGA Generic Library Guide.pdf#page=276; ComponentLink1URL: CR0133 FPGA Flip Flop Resource Usage.pdf#page=244; ComponentLink1Description: Core &Resource Usage; FunctionalClass: Flip-Flop; Set: Asynchronous
pins: C (in), CE (in), D (in), L (in), PRE (in), Q (out), T (in)

## FTPLEN
designator U?
Toggle/Loadable Flip-Flop with Toggle, Clock Enable, Asynchronous Preset and Inverted and Non-Inverted Outputs; SubClass: T; ClockTrigger: Rising; Enable: High; Loadable: True; ArchiveName: GENERIC; VHDLIB_SIM: GENERIC_LIB; Published: 29-Jan-2004; Publisher: Altium Limited; LastRevisionNo: 1.00.00; HelpURL: CR0118 FPGA Generic Library Guide.pdf#page=277; ComponentLink1URL: CR0133 FPGA Flip Flop Resource Usage.pdf#page=245; ComponentLink1Description: Core &Resource Usage; FunctionalClass: Flip-Flop; Set: Asynchronous
pins: C (in), CE (in), D (in), L (in), PRE (in), Q (out), QN (out), T (in)

## FTPN
designator U?
Toggle Flip-Flop with Toggle Enable, Asynchronous Preset and Inverted and Non-Inverted Outputs; SubClass: T; ClockTrigger: Rising; Enable: High; ArchiveName: GENERIC; VHDLIB_SIM: GENERIC_LIB; Published: 29-Jan-2004; Publisher: Altium Limited; LastRevisionNo: 1.00.00; HelpURL: CR0118 FPGA Generic Library Guide.pdf#page=278; ComponentLink1URL: CR0133 FPGA Flip Flop Resource Usage.pdf#page=246; ComponentLink1Description: Core &Resource Usage; FunctionalClass: Flip-Flop; Set: Asynchronous
pins: C (in), PRE (in), Q (out), QN (out), T (in)

## FTRSE
designator U?
Toggle Flip-Flop with Toggle and Clock Enable and Synchronous Reset and Set; XilinxEquivalent: FTRSE; SubClass: T; ClockTrigger: Rising; Enable: High; ArchiveName: GENERIC; VHDLIB_SIM: GENERIC_LIB; Published: 29-Jan-2004; Publisher: Altium Limited; LastRevisionNo: 1.00.00; HelpURL: CR0118 FPGA Generic Library Guide.pdf#page=279; ComponentLink1URL: CR0133 FPGA Flip Flop Resource Usage.pdf#page=247; ComponentLink1Description: Core &Resource Usage; FunctionalClass: Flip-Flop; Reset: Synchronous; Set: Synchronous
pins: C (in), CE (in), Q (out), R (in), S (in), T (in)

## FTRSE_1
designator U?
Negative Edge Toggle Flip-Flop with Toggle and Clock Enable and Synchronous Reset and Set; SubClass: T; ClockTrigger: Falling; Enable: High; ArchiveName: GENERIC; VHDLIB_SIM: GENERIC_LIB; Published: 29-Jan-2004; Publisher: Altium Limited; LastRevisionNo: 1.00.00; HelpURL: CR0118 FPGA Generic Library Guide.pdf#page=280; ComponentLink1URL: CR0133 FPGA Flip Flop Resource Usage.pdf#page=248; ComponentLink1Description: Core &Resource Usage; FunctionalClass: Flip-Flop; Reset: Synchronous; Set: Synchronous
pins: C (in), CE (in), Q (out), R (in), S (in), T (in)

## FTRSEN
designator U?
Toggle Flip-Flop with Toggle, Clock Enable, Synchronous Reset and Set and Inverted and Non-Inverted Outputs; SubClass: T; ClockTrigger: Rising; Enable: High; ArchiveName: GENERIC; VHDLIB_SIM: GENERIC_LIB; Published: 29-Jan-2004; Publisher: Altium Limited; LastRevisionNo: 1.00.00; HelpURL: CR0118 FPGA Generic Library Guide.pdf#page=281; ComponentLink1URL: CR0133 FPGA Flip Flop Resource Usage.pdf#page=249; ComponentLink1Description: Core &Resource Usage; FunctionalClass: Flip-Flop; Reset: Synchronous; Set: Synchronous
pins: C (in), CE (in), Q (out), QN (out), R (in), S (in), T (in)

## FTRSLE
designator U?
Toggle/Loadable Flip-Flop with Toggle and Clock Enable and Synchronous Reset and Set; XilinxEquivalent: FTRSLE; SubClass: T; ClockTrigger: Rising; Enable: High; Loadable: True; ArchiveName: GENERIC; VHDLIB_SIM: GENERIC_LIB; Published: 29-Jan-2004; Publisher: Altium Limited; LastRevisionNo: 1.00.00; HelpURL: CR0118 FPGA Generic Library Guide.pdf#page=282; ComponentLink1URL: CR0133 FPGA Flip Flop Resource Usage.pdf#page=250; ComponentLink1Description: Core &Resource Usage; FunctionalClass: Flip-Flop; Reset: Synchronous; Set: Synchronous
pins: C (in), CE (in), D (in), L (in), Q (out), R (in), S (in), T (in)

## FTRSLE_1
designator U?
Toggle/Loadable Negative Edge Flip-Flop with Toggle and Clock Enable and Synchronous Reset and Set; SubClass: T; ClockTrigger: Falling; Enable: High; Loadable: True; ArchiveName: GENERIC; VHDLIB_SIM: GENERIC_LIB; Published: 29-Jan-2004; Publisher: Altium Limited; LastRevisionNo: 1.00.00; HelpURL: CR0118 FPGA Generic Library Guide.pdf#page=283; ComponentLink1URL: CR0133 FPGA Flip Flop Resource Usage.pdf#page=251; ComponentLink1Description: Core &Resource Usage; FunctionalClass: Flip-Flop; Reset: Synchronous; Set: Synchronous
pins: C (in), CE (in), D (in), L (in), Q (out), R (in), S (in), T (in)

## FTRSLEN
designator U?
Toggle/Loadable Flip-Flop with Toggle, Clock Enable, Synchronous Reset and Set and Inverted and Non-Inverted Outputs; SubClass: T; ClockTrigger: Rising; Enable: High; Loadable: True; ArchiveName: GENERIC; VHDLIB_SIM: GENERIC_LIB; Published: 29-Jan-2004; Publisher: Altium Limited; LastRevisionNo: 1.00.00; HelpURL: CR0118 FPGA Generic Library Guide.pdf#page=284; ComponentLink1URL: CR0133 FPGA Flip Flop Resource Usage.pdf#page=252; ComponentLink1Description: Core &Resource Usage; FunctionalClass: Flip-Flop; Reset: Synchronous; Set: Synchronous
pins: C (in), CE (in), D (in), L (in), Q (out), QN (out), R (in), S (in), T (in)

## FTSRE
designator U?
Toggle Flip-Flop with Toggle and Clock Enable and Synchronous Set and Reset; XilinxEquivalent: FTSRE; SubClass: T; ClockTrigger: Rising; Enable: High; ArchiveName: GENERIC; VHDLIB_SIM: GENERIC_LIB; Published: 29-Jan-2004; Publisher: Altium Limited; LastRevisionNo: 1.00.00; HelpURL: CR0118 FPGA Generic Library Guide.pdf#page=285; ComponentLink1URL: CR0133 FPGA Flip Flop Resource Usage.pdf#page=253; ComponentLink1Description: Core &Resource Usage; FunctionalClass: Flip-Flop; Reset: Synchronous; Set: Synchronous
pins: C (in), CE (in), Q (out), R (in), S (in), T (in)

## FTSRE_1
designator U?
Negative Edge Toggle Flip-Flop with Toggle and Clock Enable and Synchronous Set and Reset; SubClass: T; ClockTrigger: Falling; Enable: High; ArchiveName: GENERIC; VHDLIB_SIM: GENERIC_LIB; Published: 29-Jan-2004; Publisher: Altium Limited; LastRevisionNo: 1.00.00; HelpURL: CR0118 FPGA Generic Library Guide.pdf#page=286; ComponentLink1URL: CR0133 FPGA Flip Flop Resource Usage.pdf#page=254; ComponentLink1Description: Core &Resource Usage; FunctionalClass: Flip-Flop; Reset: Synchronous; Set: Synchronous
pins: C (in), CE (in), Q (out), R (in), S (in), T (in)

## FTSREN
designator U?
Toggle Flip-Flop with Toggle, Clock Enable, Synchronous Set and Reset and Inverted and Non-Inverted Outputs; SubClass: T; ClockTrigger: Rising; Enable: High; ArchiveName: GENERIC; VHDLIB_SIM: GENERIC_LIB; Published: 29-Jan-2004; Publisher: Altium Limited; LastRevisionNo: 1.00.00; HelpURL: CR0118 FPGA Generic Library Guide.pdf#page=287; ComponentLink1URL: CR0133 FPGA Flip Flop Resource Usage.pdf#page=255; ComponentLink1Description: Core &Resource Usage; FunctionalClass: Flip-Flop; Reset: Synchronous; Set: Synchronous
pins: C (in), CE (in), Q (out), QN (out), R (in), S (in), T (in)

## FTSRLE
designator U?
Toggle/Loadable Flip-Flop with Toggle and Clock Enable and Synchronous Set and Reset; XilinxEquivalent: FTSRLE; SubClass: T; ClockTrigger: Rising; Enable: High; Loadable: True; ArchiveName: GENERIC; VHDLIB_SIM: GENERIC_LIB; Published: 29-Jan-2004; Publisher: Altium Limited; LastRevisionNo: 1.00.00; HelpURL: CR0118 FPGA Generic Library Guide.pdf#page=288; ComponentLink1URL: CR0133 FPGA Flip Flop Resource Usage.pdf#page=256; ComponentLink1Description: Core &Resource Usage; FunctionalClass: Flip-Flop; Reset: Synchronous; Set: Synchronous
pins: C (in), CE (in), D (in), L (in), Q (out), R (in), S (in), T (in)

## FTSRLE_1
designator U?
Toggle/Loadable Negative Edge Flip-Flop with Toggle and Clock Enable and Synchronous Set and Reset; SubClass: T; ClockTrigger: Falling; Enable: High; Loadable: True; ArchiveName: GENERIC; VHDLIB_SIM: GENERIC_LIB; Published: 29-Jan-2004; Publisher: Altium Limited; LastRevisionNo: 1.00.00; HelpURL: CR0118 FPGA Generic Library Guide.pdf#page=289; ComponentLink1URL: CR0133 FPGA Flip Flop Resource Usage.pdf#page=257; ComponentLink1Description: Core &Resource Usage; FunctionalClass: Flip-Flop; Reset: Synchronous; Set: Synchronous
pins: C (in), CE (in), D (in), L (in), Q (out), R (in), S (in), T (in)

## FTSRLEN
designator U?
Toggle/Loadable Flip-Flop with Toggle, Clock Enable, Synchronous Set and Reset and Inverted and Non-Inverted Outputs; SubClass: T; ClockTrigger: Rising; Enable: High; Loadable: True; ArchiveName: GENERIC; VHDLIB_SIM: GENERIC_LIB; Published: 29-Jan-2004; Publisher: Altium Limited; LastRevisionNo: 1.00.00; HelpURL: CR0118 FPGA Generic Library Guide.pdf#page=290; ComponentLink1URL: CR0133 FPGA Flip Flop Resource Usage.pdf#page=258; ComponentLink1Description: Core &Resource Usage; FunctionalClass: Flip-Flop; Reset: Synchronous; Set: Synchronous
pins: C (in), CE (in), D (in), L (in), Q (out), QN (out), R (in), S (in), T (in)

## INV
designator U?
Inverter; XilinxEquivalent: INV; FunctionalClass: Logic Primitive; ArchiveName: GENERIC; VHDLIB_SIM: GENERIC_LIB; Published: 29-Jan-2004; Publisher: Altium Limited; LastRevisionNo: 1.00.00; HelpURL: CR0118 FPGA Generic Library Guide.pdf#page=291; ComponentLink1URL: CR0136 FPGA Logic Primitive Resource Usage.pdf#page=61; ComponentLink1Description: Core &Resource Usage; SubClass: INV
pins: I (in), O (out)

## INV2B
designator U?
2-Bit Inverter, Bus Version; FunctionalClass: Logic Primitive; SubClass: INV; PortSize: 2; ArchiveName: GENERIC; VHDLIB_SIM: GENERIC_LIB; Published: 29-Jan-2004; Publisher: Altium Limited; LastRevisionNo: 1.00.00; HelpURL: CR0118 FPGA Generic Library Guide.pdf#page=291; ComponentLink1URL: CR0136 FPGA Logic Primitive Resource Usage.pdf#page=62; ComponentLink1Description: Core &Resource Usage; PortStyle: Bus Version
pins: I[1..0] (in), O[1..0] (out)
text: [1..0]

## INV2S
designator U?
2-Bit Inverter, Single Pin Version; XilinxEquivalent: INV2; FunctionalClass: Logic Primitive; SubClass: INV; PortSize: 2; ArchiveName: GENERIC; VHDLIB_SIM: GENERIC_LIB; Published: 29-Jan-2004; Publisher: Altium Limited; LastRevisionNo: 1.00.00; HelpURL: CR0118 FPGA Generic Library Guide.pdf#page=291; ComponentLink1URL: CR0136 FPGA Logic Primitive Resource Usage.pdf#page=63; ComponentLink1Description: Core &Resource Usage; PortStyle: Single Pin Version
pins: I0 (in), I1 (in), O0 (out), O1 (out)

## INV3B
designator U?
3-Bit Inverter, Bus Version; FunctionalClass: Logic Primitive; SubClass: INV; PortSize: 3; ArchiveName: GENERIC; VHDLIB_SIM: GENERIC_LIB; Published: 29-Jan-2004; Publisher: Altium Limited; LastRevisionNo: 1.00.00; HelpURL: CR0118 FPGA Generic Library Guide.pdf#page=291; ComponentLink1URL: CR0136 FPGA Logic Primitive Resource Usage.pdf#page=64; ComponentLink1Description: Core &Resource Usage; PortStyle: Bus Version
pins: I[2..0] (in), O[2..0] (out)
text: [2..0]

## INV3S
designator U?
3-Bit Inverter, Single Pin Version; FunctionalClass: Logic Primitive; SubClass: INV; PortSize: 3; ArchiveName: GENERIC; VHDLIB_SIM: GENERIC_LIB; Published: 29-Jan-2004; Publisher: Altium Limited; LastRevisionNo: 1.00.00; HelpURL: CR0118 FPGA Generic Library Guide.pdf#page=291; ComponentLink1URL: CR0136 FPGA Logic Primitive Resource Usage.pdf#page=65; ComponentLink1Description: Core &Resource Usage; PortStyle: Single Pin Version
pins: I0 (in), I1 (in), I2 (in), O0 (out), O1 (out), O2 (out)

## INV4B
designator U?
4-Bit Inverter, Bus Version; FunctionalClass: Logic Primitive; SubClass: INV; PortSize: 4; ArchiveName: GENERIC; VHDLIB_SIM: GENERIC_LIB; Published: 29-Jan-2004; Publisher: Altium Limited; LastRevisionNo: 1.00.00; HelpURL: CR0118 FPGA Generic Library Guide.pdf#page=291; ComponentLink1URL: CR0136 FPGA Logic Primitive Resource Usage.pdf#page=66; ComponentLink1Description: Core &Resource Usage; PortStyle: Bus Version
pins: I[3..0] (in), O[3..0] (out)
text: [3..0]

## INV4S
designator U?
4-Bit Inverter, Single Pin Version; XilinxEquivalent: INV4; FunctionalClass: Logic Primitive; SubClass: INV; PortSize: 4; ArchiveName: GENERIC; VHDLIB_SIM: GENERIC_LIB; Published: 29-Jan-2004; Publisher: Altium Limited; LastRevisionNo: 1.00.00; HelpURL: CR0118 FPGA Generic Library Guide.pdf#page=291; ComponentLink1URL: CR0136 FPGA Logic Primitive Resource Usage.pdf#page=67; ComponentLink1Description: Core &Resource Usage; PortStyle: Single Pin Version
pins: I0 (in), I1 (in), I2 (in), I3 (in), O0 (out), O1 (out), O2 (out), O3 (out)

## INV5B
designator U?
5-Bit Inverter, Bus Version; FunctionalClass: Logic Primitive; SubClass: INV; PortSize: 5; ArchiveName: GENERIC; VHDLIB_SIM: GENERIC_LIB; Published: 29-Jan-2004; Publisher: Altium Limited; LastRevisionNo: 1.00.00; HelpURL: CR0118 FPGA Generic Library Guide.pdf#page=291; ComponentLink1URL: CR0136 FPGA Logic Primitive Resource Usage.pdf#page=68; ComponentLink1Description: Core &Resource Usage; PortStyle: Bus Version
pins: I[4..0] (in), O[4..0] (out)
text: [4..0]

## INV5S
designator U?
5-Bit Inverter, Single Pin Version; FunctionalClass: Logic Primitive; SubClass: INV; PortSize: 5; ArchiveName: GENERIC; VHDLIB_SIM: GENERIC_LIB; Published: 29-Jan-2004; Publisher: Altium Limited; LastRevisionNo: 1.00.00; HelpURL: CR0118 FPGA Generic Library Guide.pdf#page=291; ComponentLink1URL: CR0136 FPGA Logic Primitive Resource Usage.pdf#page=69; ComponentLink1Description: Core &Resource Usage; PortStyle: Single Pin Version
pins: I0 (in), I1 (in), I2 (in), I3 (in), I4 (in), O0 (out), O1 (out), O2 (out), O3 (out), O4 (out)

## INV6B
designator U?
6-Bit Inverter, Bus Version; FunctionalClass: Logic Primitive; SubClass: INV; PortSize: 6; ArchiveName: GENERIC; VHDLIB_SIM: GENERIC_LIB; Published: 29-Jan-2004; Publisher: Altium Limited; LastRevisionNo: 1.00.00; HelpURL: CR0118 FPGA Generic Library Guide.pdf#page=291; ComponentLink1URL: CR0136 FPGA Logic Primitive Resource Usage.pdf#page=70; ComponentLink1Description: Core &Resource Usage; PortStyle: Bus Version
pins: I[5..0] (in), O[5..0] (out)
text: [5..0]

## INV6S
designator U?
6-Bit Inverter, Single Pin Version; FunctionalClass: Logic Primitive; SubClass: INV; PortSize: 6; ArchiveName: GENERIC; VHDLIB_SIM: GENERIC_LIB; Published: 29-Jan-2004; Publisher: Altium Limited; LastRevisionNo: 1.00.00; HelpURL: CR0118 FPGA Generic Library Guide.pdf#page=291; ComponentLink1URL: CR0136 FPGA Logic Primitive Resource Usage.pdf#page=71; ComponentLink1Description: Core &Resource Usage; PortStyle: Single Pin Version
pins: I0 (in), I1 (in), I2 (in), I3 (in), I4 (in), I5 (in), O0 (out), O1 (out), O2 (out), O3 (out), O4 (out), O5 (out)